# Altium schematic symbol library Molex_22_23_2021.SchLib: 1 symbol
Pins are listed as number, name and electrical type; pins without a type are passive.

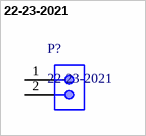
[diagram p0: symbol 22-23-2021]

## 22-23-2021
designator P?
Male Header, Pitch 2.54 mm, 1 x 2 Position, Height 10.67 mm, Tail Length 3.56 mm, 0 to 75 degC, RoHS, Bulk; Series name: 6373; Rated Voltage: 250V; Wire connection method: Solder; Rated current: 4/ContactA; Number of poles: 2; Contact point finish: Tin Over Copper; Maximum service temperature: 75C; Number of arrays: 1; Minimum service temperature: 0C; Shape/Type: Straight; Pitch: 2.54mm; Width: 6.35mm; PartNumber: 22-23-2021; ComponentLink1Description: Manufacturer URL; ComponentLink2Description: Datasheet; ComponentLink1URL: http://www.molex.com/; ComponentLink2URL: https://datasheet.ciiva.com/19454/232266-19454304.pdf; Length: 5.08mm; Height: 10.67mm; Mounting Technology: Through Hole; PackageDescription: Male Header, Pitch 2.54 mm, 1 x 2 Position, Height 10.67 mm, Tail Length 3.56 mm
footprint MOLX-22-23-2021_V
pins: 1, 2